# Altium schematic symbol library WSBM.SchLib: 4 symbols
Pins are listed as number, name and electrical type; pins without a type are passive.

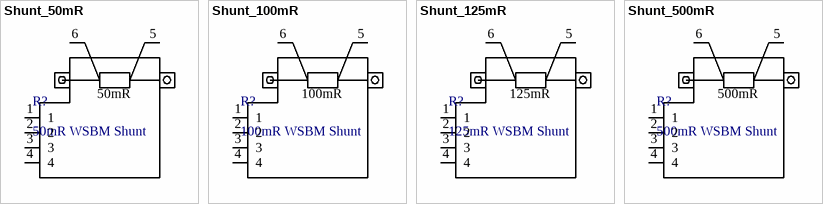
[diagram p0: symbols Shunt_50mR to Shunt_500mR]

## Shunt_50mR
designator R?, comment 50mR WSBM Shunt
Power Metal Strip® Battery Shunt Resistor W/Molded Enclosure / Very Low Value (50 μR, 100 μR, 125 μR, and 500 μR); Manufacturer: Vishay; Manufacturer Part Number: WSBM8518L0500
footprint 50mR
pins: 1, 2, 3, 4, 5, 6
text: 50mR

## Shunt_100mR
designator R?, comment 100mR WSBM Shunt
Power Metal Strip® Battery Shunt Resistor W/Molded Enclosure / Very Low Value (50 μR, 100 μR, 125 μR, and 500 μR); Manufacturer: Vishay; Manufacturer Part Number: WSBM8518L1000
footprint 100mR
pins: 1, 2, 3, 4, 5, 6
text: 100mR

## Shunt_125mR
designator R?, comment 125mR WSBM Shunt
Power Metal Strip® Battery Shunt Resistor W/Molded Enclosure / Very Low Value (50 μR, 100 μR, 125 μR, and 500 μR); Manufacturer: Vishay; Manufacturer Part Number: WSBM8518L1250
footprint 125mR
pins: 1, 2, 3, 4, 5, 6
text: 125mR

## Shunt_500mR
designator R?, comment 500mR WSBM Shunt
Power Metal Strip® Battery Shunt Resistor W/Molded Enclosure / Very Low Value (50 μR, 100 μR, 125 μR, and 500 μR); Manufacturer: Vishay; Manufacturer Part Number: WSBM8518L5000
footprint 500mR
pins: 1, 2, 3, 4, 5, 6
text: 500mR